# Altium integrated library Infrared (IR) Emitter.IntLib: 1 symbol
Pins are listed as number, name and electrical type; pins without a type are passive.

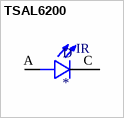
[diagram p0: symbol TSAL6200]

## TSAL6200
designator D
Infrared _IR_ Emitter 940nm 1.35V 100mA 40mW/sr @ 100mA 34Â° Radial, 5mm Dia _T 1 3/4_; MP: TSAL6200; MF: Vishay; Price: None; SnapEDA_Link: https://www.snapeda.com/parts/TSAL6200/Vishay%20Semiconductor%20Opto%20Division/view-part/1186623/?ref=snap; Package: Radial Vishay; Availability: Unavailable; Value: *
footprint LEDRD254W55D595H900
pins: A, C
text: IR